# Altium integrated library TPS5430DDAR.IntLib: 1 symbol
Pins are listed as number, name and electrical type; pins without a type are passive.

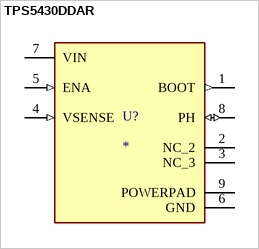
[diagram p0: symbol TPS5430DDAR]

## TPS5430DDAR
designator U?
5.5V to 36V Input, 3A, 500kHz Step-Down Converter; MF: Texas Instruments; MP: TPS5430DDAR; Package: HSOIC-8 Texas Instruments; Check_prices: https://www.snapeda.com/parts/TPS5430DDAR/Texas+Instruments/view-part/?ref=eda; Value: *; Purchase-URL: https://pricing.snapeda.com/search/part/TPS5430DDAR/?ref=eda; Availability: In Stock; SnapEDA_Link: https://www.snapeda.com/parts/TPS5430DDAR/Texas+Instruments/view-part/?ref=snap; Price: None
footprint CONV_TPS5430DDAR
pins: 1 BOOT (out), 2 NC_2, 3 NC_3, 4 VSENSE (in), 5 ENA (in), 6 GND (power), 7 VIN (power), 8 PH (io), 9 POWERPAD (power)